# EAGLE library part TLE6251D (library infineon2)
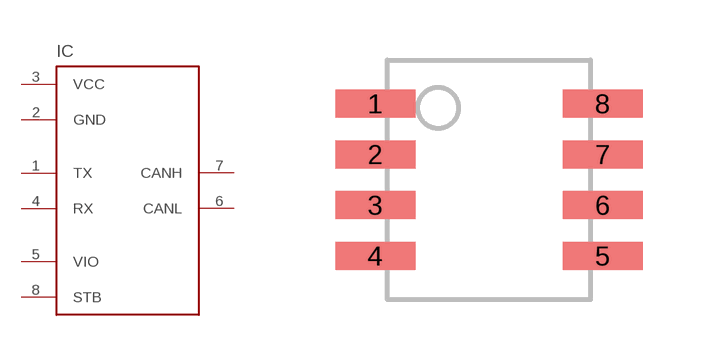
[diagram p1: symbol with the pads of PG-DSO-8-16; footprint PG-DSO-8-16]

Designator prefix IC

## TLE6251D  [PG-DSO-8-16]
1  TX
2  GND
3  VCC
4  RX
5  VIO
6  CANL
7  CANH
8  STB

## Footprint PG-DSO-8-16 (pad centres in mm)
smd 2 x 0.7: 1 -2.845,1.905; 2 -2.845,0.635; 3 -2.845,-0.635; 4 -2.845,-1.905; 5 2.845,-1.905; 6 2.845,-0.635; 7 2.845,0.635; 8 2.845,1.905